# Altium schematic symbol library BlinkBoard_micro.SchLib: 26 symbols
Pins are listed as number, name and electrical type; pins without a type are passive.

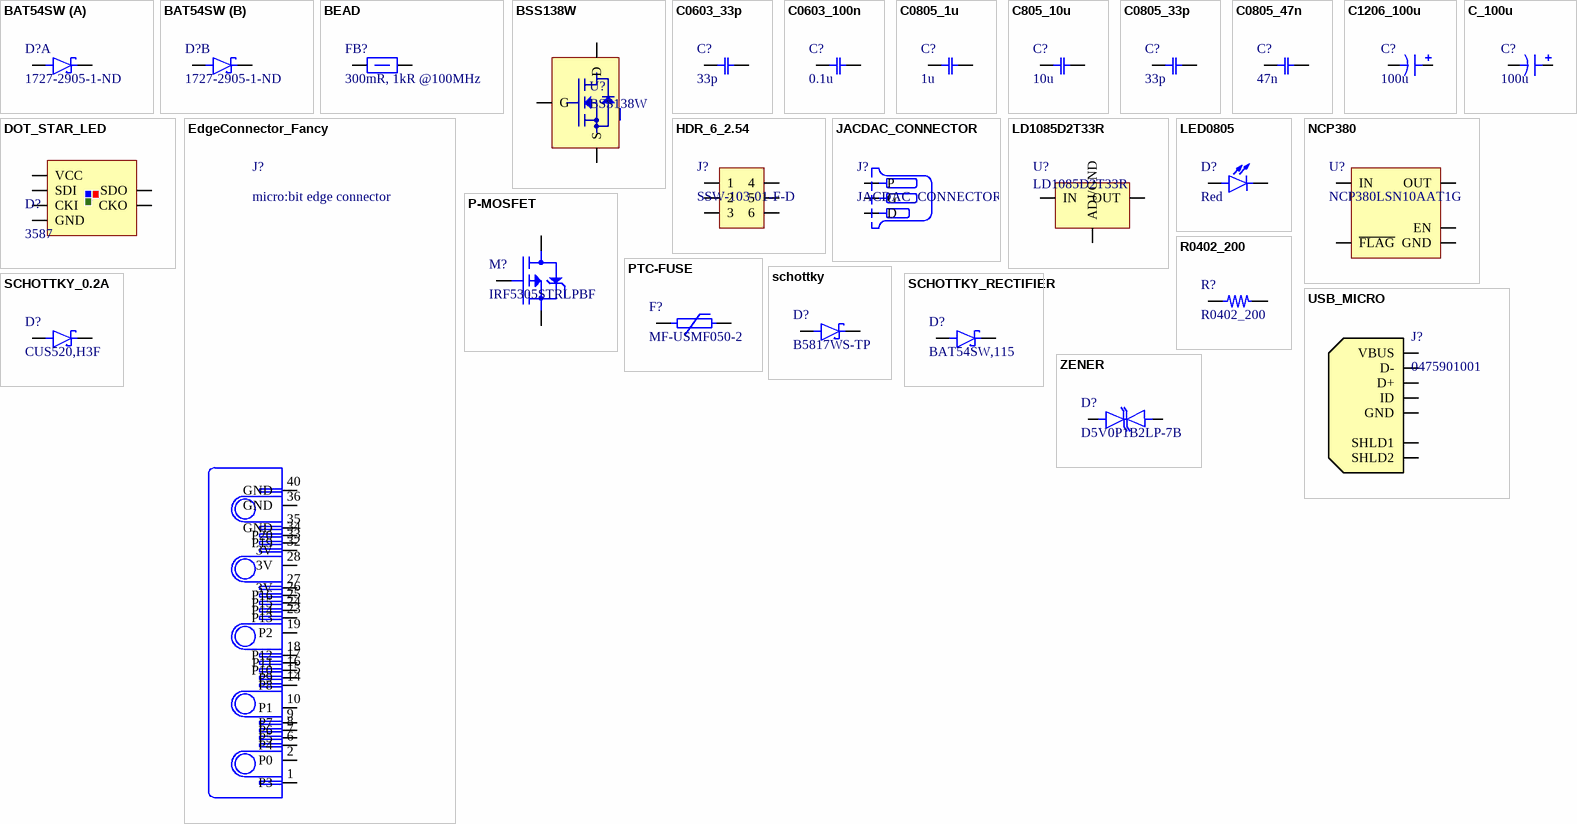
[diagram p0: symbols BAT54SW to ZENER]

## BAT54SW
designator D?, comment 1727-2905-1-ND
Rectifier Diode Schottky 0.2A 5ns Automotive 3-Pin SC-70 T/R; Manufacturer: Nexperia; Manufacturer Part Number: BAT54SW,115; Supplier 1: Digi-Key; RoHS: Yes; Category: Rectifier Diodes; Stock 1: 166801; ComponentLink1URL: http://www.farnell.com/datasheets/1679676.pdf?src-supplier=Farnell; ComponentLink1Description: http://www.farnell.com/datasheets/1679676.pdf?src-supplier=Farnell; ComponentLink2URL: https://assets.nexperia.com/documents/data-sheet/BAT54W_SER.pdf?src-supplier=Digi-Key; ComponentLink2Description: https://assets.nexperia.com/documents/data-sheet/BAT54W_SER.pdf?src-supplier=Digi-Key; Supplier Part Number 1: 1727-2905-1-ND; Pricing 1: 1=0.23000, 10=0.20900, 100=0.11400, 500=0.07018, 1000=0.04785 (USD)
part A pins: 2, 3
part B pins: 1, 3

## BEAD
designator FB?, comment 300mR, 1kR @100MHz
Ferrite Beads Multi-Layer Chip Bead 1KOhm 25% 100MHz 600mA 0603 T/R; Manufacturer: Wurth Electronics; Manufacturer Part Number: 742792662; Number of Lines: 1; Test Frequency: 120MHz; Supplier 1: Digi-Key; RoHS: Yes; Category: Ferrite Beads and Chips; Stock 1: 259725; Mount: Surface Mount; Case/Package: SMD/SMT; Case Code (Metric): 1608; Case Code (Imperial): 0603; Weight: 7.1E-05oz; Material: Ferrite; Min Operating Temperature: -55°C; Max Operating Temperature: 125°C; Package Quantity: 4000; Packaging: Tape and Reel; Tolerance: 25%; Impedance: 1kR; Max Current Rating: 600mA; DC Resistance (DCR): 300mR; Max DC Current: 600mA; Termination: SMD/SMT; Length: 1.6mm; Width: 0.031inch; Height: 0.8mm; Depth: 0.8mm; Lead Free: Lead Free; RoHS Compliant: Yes; ComponentLink1URL: https://datasheet.ciiva.com/29364/742792662-29364469.pdf?src-supplier=Digi-Key; ComponentLink1Description: https://datasheet.ciiva.com/29364/742792662-29364469.pdf?src-supplier=Digi-Key; ComponentLink2URL: https://datasheet.ciiva.com/30489/0900766b812a6756-30489145.pdf?src-supplier=RSComponents; ComponentLink2Description: https://datasheet.ciiva.com/30489/0900766b812a6756-30489145.pdf?src-supplier=RSComponents; ComponentLink3URL: https://datasheet.ciiva.com/29364/742792662-29364471.pdf?src-supplier=Digi-Key; ComponentLink3Description: https://datasheet.ciiva.com/29364/742792662-29364471.pdf?src-supplier=Digi-Key; ComponentLink4URL: https://datasheet.ciiva.com/29364/742792662-29364473.pdf?src-supplier=Digi-Key; ComponentLink4Description: https://datasheet.ciiva.com/29364/742792662-29364473.pdf?src-supplier=Digi-Key; Supplier Part Number 1: 732-4670-1-ND; Pricing 1: 1=0.17000, 50=0.16800, 100=0.15500, 500=0.14800, 1000=0.14100, 2000=0.13400 (USD)
pins: 1, 2

## BSS138W
designator U?
MOSFET 50V N-CH Logic Level; Manufacturer: Fairchild Semiconductor; Channel Type: N-Channel; Drain-Source On Resistance-Max: 3.5 O; Qg Gate Charge: 1.1 nC; Rated Power Dissipation: 340 mW; Supplier 1: Digi-Key; Manufacturer Part Number: BSS138W; Stock 1: 55420; Drain-to-Source Voltage [Vdss]: 50 V; ComponentLink1URL: https://datasheet.ciiva.com/17170/bss138w-17170739.pdf; ComponentLink1Description: https://datasheet.ciiva.com/17170/bss138w-17170739.pdf; ComponentLink2URL: https://datasheet.ciiva.com/8115/bss138w-8115367.pdf; ComponentLink2Description: https://datasheet.ciiva.com/8115/bss138w-8115367.pdf; ComponentLink3URL: https://datasheet.ciiva.com/15043/bss138w-15043927.pdf; ComponentLink3Description: https://datasheet.ciiva.com/15043/bss138w-15043927.pdf; ComponentLink4URL: https://datasheet.ciiva.com/15043/bss138w-15043928.pdf; ComponentLink4Description: https://datasheet.ciiva.com/15043/bss138w-15043928.pdf; ComponentLink5URL: https://datasheet.ciiva.com/15043/bss138w-15043929.pdf; ComponentLink5Description: https://datasheet.ciiva.com/15043/bss138w-15043929.pdf; ComponentLink6URL: https://datasheet.ciiva.com/8115/bss138w-8115370.pdf; ComponentLink6Description: https://datasheet.ciiva.com/8115/bss138w-8115370.pdf; ComponentLink7URL: https://datasheet.ciiva.com/26146/bss138w-26146843.pdf; ComponentLink7Description: https://datasheet.ciiva.com/26146/bss138w-26146843.pdf; ComponentLink8URL: https://datasheet.ciiva.com/13042/bss138w-91619-13042909.pdf; ComponentLink8Description: https://datasheet.ciiva.com/13042/bss138w-91619-13042909.pdf; Supplier Part Number 1: BSS138WCT-ND
footprint SOT323
pins: 1 G, 2 S, 3 D

## C0603_33p
designator C?, comment 33p
CAP, MLCC, NP0, 33PF, 50V, 0603, REEL; Product Range:YAGEO - CC Series; Capacitance:33pF; Capacitance Tolerance:± 5%; Dielectric Characteristic:C0G / NP0; Voltage Rating:50V; Ceramic Capacitor Case:0603 [1608 Metric]; Operating ;RoHS Compliant: Yes; Manufacturer: Yageo; Manufacturer Part Number: CC0603JRNPO9BN330; Dielectric: C0G; Temperature Coefficient: 30ppm/°C; Insulation Resistance: 100GR; Supplier 1: Digi-Key; RoHS: Yes; Category: Ceramic Capacitors; Stock 1: 96652; Mount: Surface Mount; Case/Package: 0603; Number of Pins: 2; Case Code (Metric): 1608; Case Code (Imperial): 0603; Dielectric Material: Ceramic; Min Operating Temperature: -55°C; Max Operating Temperature: 125°C; Capacitance: 33pF; Tolerance: 5%; Packaging: Tape and Reel; Voltage Rating: 50V; Package Quantity: 1; Voltage Rating (DC): 50V; Termination: SMD/SMT; Resistor Type: Ceramic; Voltage: 50V; Series: CC; Length: 1.6mm; Width: 0.031inch; Height: 0.8mm; Thickness: 0.035inch; Depth: 0.8mm; Radiation Hardening: No; REACH SVHC: No SVHC; Lead Free: Lead Free; RoHS Compliant: Yes; ComponentLink1URL: https://datasheet.ciiva.com/11786/0900766b8079c870-11786082.pdf?src-supplier=RSComponents; ComponentLink1Description: https://datasheet.ciiva.com/11786/0900766b8079c870-11786082.pdf?src-supplier=RSComponents; ComponentLink2URL: https://datasheet.ciiva.com/26862/getdatasheetpartid-403532-26862767.pdf?src-supplier=Verical; ComponentLink2Description: https://datasheet.ciiva.com/26862/getdatasheetpartid-403532-26862767.pdf?src-supplier=Verical; ComponentLink3URL: https://datasheet.ciiva.com/144/mlccorderingcode-144643.pdf?src-supplier=Digi-Key; ComponentLink3Description: https://datasheet.ciiva.com/144/mlccorderingcode-144643.pdf?src-supplier=Digi-Key; ComponentLink4URL: https://datasheet.ciiva.com/144/mlccorderingcode-144644.pdf?src-supplier=Digi-Key; ComponentLink4Description: https://datasheet.ciiva.com/144/mlccorderingcode-144644.pdf?src-supplier=Digi-Key; ComponentLink5URL: https://datasheet.ciiva.com/144/mlccorderingcode-144645.pdf?src-supplier=Digi-Key; ComponentLink5Description: https://datasheet.ciiva.com/144/mlccorderingcode-144645.pdf?src-supplier=Digi-Key; ComponentLink6URL: https://datasheet.ciiva.com/5426/upy-gp-np0-16v-to-50v-8-5426614.pdf?src-supplier=Mouser; ComponentLink6Description: https://datasheet.ciiva.com/5426/upy-gp-np0-16v-to-50v-8-5426614.pdf?src-supplier=Mouser; ComponentLink7URL: https://datasheet.ciiva.com/8033/1372269-8033734.pdf?src-supplier=Element14; ComponentLink7Description: https://datasheet.ciiva.com/8033/1372269-8033734.pdf?src-supplier=Element14; ComponentLink8URL: https://datasheet.ciiva.com/8033/1443161-8033735.pdf?src-supplier=Element14; ComponentLink8Description: https://datasheet.ciiva.com/8033/1443161-8033735.pdf?src-supplier=Element14; ComponentLink9URL: https://datasheet.ciiva.com/11464/upy-gp-np0-16v-to-50v-8-11464730.pdf?src-supplier=Avnet; ComponentLink9Description: https://datasheet.ciiva.com/11464/upy-gp-np0-16v-to-50v-8-11464730.pdf?src-supplier=Avnet; ComponentLink10URL: https://datasheet.ciiva.com/46430/1835847-46430155.pdf?src-supplier=Element14; ComponentLink10Description: https://datasheet.ciiva.com/46430/1835847-46430155.pdf?src-supplier=Element14; ComponentLink11URL: https://datasheet.ciiva.com/7978/1443161-7978142.pdf?src-supplier=Element14; ComponentLink11Description: https://datasheet.ciiva.com/7978/1443161-7978142.pdf?src-supplier=Element14; Supplier Part Number 1: 311-1064-1-ND; Pricing 1: 1=0.10000, 10=0.04200, 50=0.02320, 100=0.01890, 500=0.01352, 1000=0.01062 (USD)
footprint C0603
pins: 1, 2

## C0603_100n
designator C?, comment 0.1u
CAP CER 0.1UF 50V X7R 0603; Manufacturer: Yageo; Manufacturer Part Number: CC0603KPX7R9BB104; Tolerance: 10%; Capacitance: 100nF; Supplier 1: Digi-Key; RoHS: Yes; Category: Ceramic Capacitors; Stock 1: 200439; Mount: Surface Mount; Case/Package: 0603; Number of Pins: 2; Case Code (Imperial): 0603; Case Code (Metric): 1608; Weight: 7.1E-05oz; Min Operating Temperature: -55°C; Max Operating Temperature: 125°C; Packaging: Tape and Reel; Voltage Rating (DC): 50V; Voltage Rating: 50V; Dielectric: X7R; Termination: SMD/SMT; Resistor Type: Ceramic; Series: CC; Length: 1.6mm; Width: 0.031inch; Height: 0.8mm; Thickness: 0.035inch; Depth: 0.8mm; Radiation Hardening: No; Lead Free: Lead Free; Halogen Free: Halogen Free; RoHS Compliant: Yes; ComponentLink1URL: https://datasheet.ciiva.com/26829/getdatasheetpartid-653026-26829414.pdf?src-supplier=Verical; ComponentLink1Description: https://datasheet.ciiva.com/26829/getdatasheetpartid-653026-26829414.pdf?src-supplier=Verical; Supplier Part Number 1: 311-3567-6-ND; Pricing 1: 1=0.10000, 10=0.05900, 50=0.03240, 100=0.02640, 500=0.01886, 1000=0.01482, 2500=0.01348, 5000=0.01240 (USD)
footprint C0603
pins: 1, 2

## C0805_1u
designator C?, comment 1u
Surface Mount Ceramic Multilayer Capacitor 1uF -20% to 80% Y5V 25V 0805 Paper T/R; Manufacturer: Yageo; Manufacturer Part Number: CC0805ZRY5V8BB105; Supplier 1: Digi-Key; RoHS: Yes; Category: Ceramic Capacitors; Stock 1: 285953; Mount: Surface Mount; Case/Package: 0805; Case Code (Metric): 2012; Case Code (Imperial): 0805; Weight: 0.000194oz; Min Operating Temperature: -30°C; Max Operating Temperature: 85°C; Capacitance: 1uF; Tolerance: 80%; Dielectric: Y5V; Package Quantity: 1; Voltage Rating: 25V; Packaging: Tape and Reel; Voltage Rating (DC): 25V; Termination: SMD/SMT; Resistor Type: Ceramic; Series: CC; Length: 2mm; Width: 0.049inch; Height: 0.85mm; Depth: 1.25mm; Thickness: 0.033inch; Radiation Hardening: No; RoHS Compliant: Yes; REACH SVHC: No SVHC; Lead Free: Lead Free; Halogen Free: Halogen Free; ComponentLink1URL: https://datasheet.ciiva.com/144/mlccorderingcode-144703.pdf?src-supplier=Digi-Key; ComponentLink1Description: https://datasheet.ciiva.com/144/mlccorderingcode-144703.pdf?src-supplier=Digi-Key; ComponentLink2URL: https://datasheet.ciiva.com/26863/getdatasheetpartid-419810-26863011.pdf?src-supplier=Verical; ComponentLink2Description: https://datasheet.ciiva.com/26863/getdatasheetpartid-419810-26863011.pdf?src-supplier=Verical; ComponentLink3URL: https://datasheet.ciiva.com/144/mlccorderingcode-144704.pdf?src-supplier=Digi-Key; ComponentLink3Description: https://datasheet.ciiva.com/144/mlccorderingcode-144704.pdf?src-supplier=Digi-Key; ComponentLink4URL: https://datasheet.ciiva.com/144/mlccorderingcode-144705.pdf?src-supplier=Digi-Key; ComponentLink4Description: https://datasheet.ciiva.com/144/mlccorderingcode-144705.pdf?src-supplier=Digi-Key; ComponentLink5URL: https://datasheet.ciiva.com/13208/upy-gp-np0-16v-to-50v-8-13208251.pdf?src-supplier=Mouser; ComponentLink5Description: https://datasheet.ciiva.com/13208/upy-gp-np0-16v-to-50v-8-13208251.pdf?src-supplier=Mouser; ComponentLink6URL: https://datasheet.ciiva.com/28450/1132289-28450860.pdf?src-supplier=Element14; ComponentLink6Description: https://datasheet.ciiva.com/28450/1132289-28450860.pdf?src-supplier=Element14; Supplier Part Number 1: 311-1358-1-ND; Pricing 1: 1=0.14000, 10=0.10200, 50=0.05820, 100=0.04820, 500=0.03378, 1000=0.02796 (USD)
pins: 1, 2

## C805_10u
designator C?, comment 10u
Cap Ceramic 10uF 10Vdc X5R 10% SMD 0805 85°C Paper T/R; Manufacturer: Yageo; Manufacturer Part Number: CC0805KPX5R6BB106; Supplier 1: Digi-Key; Stock 1: 54858; RoHS Compliant: Yes; ComponentLink1URL: http://datasheet.octopart.com/CC0805KPX5R6BB106-Yageo-datasheet-86397281.pdf; ComponentLink1Description: http://datasheet.octopart.com/CC0805KPX5R6BB106-Yageo-datasheet-86397281.pdf; Supplier Part Number 1: 13-CC0805KPX5R6BB106CT-ND; Pricing 1: 1=0.21000, 10=0.14300, 50=0.08560, 100=0.07240, 500=0.04952, 1000=0.04380, 2500=0.04190, 5000=0.03809 (USD)
footprint C0805
pins: 1, 2

## C0805_33p
designator C?, comment 33p
Cap Ceramic 33pF 50V C0G 5% SMD 0805 125C Paper T/R; Manufacturer: Yageo; Manufacturer Part Number: CC0805JRNPO9BN330; Supplier 1: Digi-Key; RoHS: Yes; Category: Ceramic Capacitors; Stock 1: 41012; Mount: Surface Mount; Case/Package: 0805; Case Code (Imperial): 0805; Case Code (Metric): 2012; Material: Ceramic; Dielectric Material: Ceramic; Min Operating Temperature: -55°C; Max Operating Temperature: 125°C; Capacitance: 33pF; Package Quantity: 1; Voltage Rating: 50V; Voltage Rating (DC): 50V; Tolerance: 5%; Packaging: Tape and Reel; Dielectric: C0G; Termination: SMD/SMT; Resistor Type: Ceramic; Voltage: 50V; Series: CC; Length: 2mm; Width: 1.25mm; Height: 0.6mm; Thickness: 0.024inch; Depth: 1.25mm; Radiation Hardening: No; REACH SVHC: Unknown; Lead Free: Lead Free; RoHS Compliant: Yes; ComponentLink1URL: https://datasheet.ciiva.com/144/mlccorderingcode-144778.pdf?src-supplier=Digi-Key; ComponentLink1Description: https://datasheet.ciiva.com/144/mlccorderingcode-144778.pdf?src-supplier=Digi-Key; ComponentLink2URL: https://datasheet.ciiva.com/144/mlccorderingcode-144779.pdf?src-supplier=Digi-Key; ComponentLink2Description: https://datasheet.ciiva.com/144/mlccorderingcode-144779.pdf?src-supplier=Digi-Key; ComponentLink3URL: https://datasheet.ciiva.com/144/mlccorderingcode-144780.pdf?src-supplier=Digi-Key; ComponentLink3Description: https://datasheet.ciiva.com/144/mlccorderingcode-144780.pdf?src-supplier=Digi-Key; ComponentLink4URL: https://datasheet.ciiva.com/11464/upy-gp-np0-16v-to-50v-8-11464747.pdf?src-supplier=Avnet; ComponentLink4Description: https://datasheet.ciiva.com/11464/upy-gp-np0-16v-to-50v-8-11464747.pdf?src-supplier=Avnet; ComponentLink5URL: https://datasheet.ciiva.com/8033/1443161-8033942.pdf?src-supplier=Element14; ComponentLink5Description: https://datasheet.ciiva.com/8033/1443161-8033942.pdf?src-supplier=Element14; ComponentLink6URL: https://datasheet.ciiva.com/8033/1443161-8033944.pdf?src-supplier=Element14; ComponentLink6Description: https://datasheet.ciiva.com/8033/1443161-8033944.pdf?src-supplier=Element14; ComponentLink7URL: https://datasheet.ciiva.com/16625/upy-gp-np0-16v-to-50v-8-16625541.pdf?src-supplier=Avnet+Europe; ComponentLink7Description: https://datasheet.ciiva.com/16625/upy-gp-np0-16v-to-50v-8-16625541.pdf?src-supplier=Avnet+Europe; ComponentLink8URL: https://datasheet.ciiva.com/29241/445349-da-01-en-kerko-chip-0805-np0-33pf-5proz-50v-g-29241975.pdf?src-supplier=Conrad; ComponentLink8Description: https://datasheet.ciiva.com/29241/445349-da-01-en-kerko-chip-0805-np0-33pf-5proz-50v-g-29241975.pdf?src-supplier=Conrad; Supplier Part Number 1: 311-1105-1-ND; Pricing 1: 1=0.11000, 10=0.07800, 50=0.04280, 100=0.03490, 500=0.02492, 1000=0.01958 (USD)
pins: 1, 2

## C0805_47n
designator C?, comment 47n
Cap Ceramic 0.047uF 50V X7R 5% SMD 0805 125C Paper T/R; Manufacturer: Yageo; Manufacturer Part Number: CC0805JRX7R9BB473; Capacitance: 47nF; RoHS: Yes; Mount: Surface Mount; Case/Package: 0805; Weight: 0.000194oz; Case Code (Imperial): 0805; Case Code (Metric): 2012; Min Operating Temperature: -55°C; Max Operating Temperature: 125°C; Tolerance: 5%; Voltage Rating: 50V; Voltage Rating (DC): 50V; Packaging: Tape and Reel; Dielectric: X7R; Termination: SMD/SMT; Composition: Ceramic; Length: 2mm; Height: 0.85mm; Width: 1.25mm; Thickness: 0.037inch; Depth: 1.25mm; Radiation Hardening: No; Lead Free: Lead Free; Halogen Free: Halogen Free; ComponentLink4URL: https://datasheet.ciiva.com/11587/upy-gphc-x7r-6-3v-to-50v-8-11587207.pdf?src-supplier=Avnet; ComponentLink4Description: https://datasheet.ciiva.com/11587/upy-gphc-x7r-6-3v-to-50v-8-11587207.pdf?src-supplier=Avnet; Supplier 1: Digi-Key; Stock 1: 8317; Supplier Part Number 1: 311-3553-6-ND; Pricing 1: 1 = 0.21000, 10 = 0.14700, 100 = 0.06900, 500 = 0.04838, 1000 = 0.04005 (USD)
footprint C0805
pins: 1, 2

## C1206_100u
designator C?, comment 100u
100uF Solid MnO2 Tantalum Capacitor,  4 V +/-20%,  T491 Series; Manufacturer: KEMET; Manufacturer Part Number: T491A107M004AT; Tolerance: 20%; ESR (Equivalent Series Resistance): 4R; Voltage Rating: 4V; Leakage Current: 4uA; Dissipation Factor: 30%; Polarity: Polar; Life (Hours): 2000Hour; Supplier 1: Digi-Key; Stock 1: 52740; RoHS: Yes; Mount: Surface Mount,PCB; Case/Package: 1206; Dielectric Material: Tantalum; Case Code (Imperial): 1206; Case Code (Metric): 3216; Min Operating Temperature: -55°C; Max Operating Temperature: 125°C; Capacitance: 100uF; Packaging: Tape and Reel; Package Quantity: 1; Termination: SMD/SMT; Voltage: 4V; Voltage Rating (DC): 4V; Features: General Purpose; Length: 3.2mm; Height: 1.6mm; Width: 1.6mm; Height - Seated (Max): 0.071inch; Lead Pitch: 1.2mm; Depth: 1.6mm; Radiation Hardening: No; REACH SVHC: No SVHC; Lead Free: Lead Free; ComponentLink1URL: https://datasheet.ciiva.com/14103/t491serie-eng-tds-14103975.pdf?src-supplier=Distrelec; ComponentLink1Description: https://datasheet.ciiva.com/14103/t491serie-eng-tds-14103975.pdf?src-supplier=Distrelec; ComponentLink2URL: https://datasheet.ciiva.com/7851/1854511-7851162.pdf?src-supplier=Element14; ComponentLink2Description: https://datasheet.ciiva.com/7851/1854511-7851162.pdf?src-supplier=Element14; ComponentLink3URL: https://datasheet.ciiva.com/14589/70095774-14589211.pdf?src-supplier=Allied+Electronics; ComponentLink3Description: https://datasheet.ciiva.com/14589/70095774-14589211.pdf?src-supplier=Allied+Electronics; ComponentLink4URL: https://datasheet.ciiva.com/258/kem-t2005-t491-258169.pdf?src-supplier=Digi-Key; ComponentLink4Description: https://datasheet.ciiva.com/258/kem-t2005-t491-258169.pdf?src-supplier=Digi-Key; ComponentLink5URL: https://datasheet.ciiva.com/258/kem-t2005-t491-258170.pdf?src-supplier=Digi-Key; ComponentLink5Description: https://datasheet.ciiva.com/258/kem-t2005-t491-258170.pdf?src-supplier=Digi-Key; ComponentLink6URL: https://datasheet.ciiva.com/258/kem-t2005-t491-258171.pdf?src-supplier=Digi-Key; ComponentLink6Description: https://datasheet.ciiva.com/258/kem-t2005-t491-258171.pdf?src-supplier=Digi-Key; ComponentLink7URL: https://datasheet.ciiva.com/46417/1854511-46417596.pdf?src-supplier=Element14; ComponentLink7Description: https://datasheet.ciiva.com/46417/1854511-46417596.pdf?src-supplier=Element14; ComponentLink8URL: https://datasheet.ciiva.com/14606/70095774-14606061.pdf?src-supplier=Allied+Electronics; ComponentLink8Description: https://datasheet.ciiva.com/14606/70095774-14606061.pdf?src-supplier=Allied+Electronics; Supplier Part Number 1: 399-3688-6-ND; Pricing 1: 1 = 0.67000, 10 = 0.47100, 50 = 0.35640, 100 = 0.31040, 500 = 0.22990, 1000 = 0.19542 (USD)
footprint C1206
pins: 1, 2

## C_100u
designator C?, comment 100u
PACITOR ALUM ELEC, 1UF, 50V, 20%, SMD; Product Range:PANASONIC - HD Series; Capacitance:1µF; Voltage Rating:50V; AE Capacitor Case:Radial Can - SMD; Diameter:4mm; ESR:-; Height:5.8mm; Ripple Current AC:7mA; Packaging:Cut Tape; Manufacturer Part Number: EEEHD1H1R0R; Dielectric Material: Aluminium; Ripple Current: 7mA; Impedance: 12R; Polarity: Polar; Leakage Current: 3uA; Life (Hours): 5000Hour; Supplier 1: Digi-Key; Manufacturer: Panasonic; RoHS: Yes; Category: Aluminum Electrolytic Capacitors; Stock 1: 36484; Mount: Surface Mount,PCB; Case/Package: Radial; Number of Pins: 2; Min Operating Temperature: -40°C; Max Operating Temperature: 105°C; Capacitance: 1uF; Voltage Rating: 50V; Tolerance: 20%; Packaging: Tape and Reel; Package Quantity: 2000; Ripple Current (AC): 7mA; ESR (Equivalent Series Resistance): 12R; Voltage Rating (DC): 50V; Termination: SMD/SMT; Voltage: 50V; Series: HD; Construction: Cylindrical; Diameter: 4mm; Length: 5.5mm; Height: 5.8mm; Height - Seated (Max): 0.228inch; Lead Pitch: 1mm; Radiation Hardening: No; REACH SVHC: No SVHC; Lead Free: Lead Free; RoHS Compliant: Yes; ComponentLink1URL: https://datasheet.ciiva.com/11783/0900766b80f32c52-11783727.pdf?src-supplier=RSComponents; ComponentLink1Description: https://datasheet.ciiva.com/11783/0900766b80f32c52-11783727.pdf?src-supplier=RSComponents; ComponentLink2URL: https://datasheet.ciiva.com/2985/aba0000ce100-2985958.pdf?src-supplier=Avnet; ComponentLink2Description: https://datasheet.ciiva.com/2985/aba0000ce100-2985958.pdf?src-supplier=Avnet; ComponentLink3URL: https://datasheet.ciiva.com/48523/smd-hd-eng-tds-48523243.pdf?src-supplier=Distrelec; ComponentLink3Description: https://datasheet.ciiva.com/48523/smd-hd-eng-tds-48523243.pdf?src-supplier=Distrelec; ComponentLink4URL: https://datasheet.ciiva.com/14610/70068285-14610445.pdf?src-supplier=Allied+Electronics; ComponentLink4Description: https://datasheet.ciiva.com/14610/70068285-14610445.pdf?src-supplier=Allied+Electronics; ComponentLink5URL: https://datasheet.ciiva.com/16205/aba0000ce100-16205365.pdf?src-supplier=Future+Electronics; ComponentLink5Description: https://datasheet.ciiva.com/16205/aba0000ce100-16205365.pdf?src-supplier=Future+Electronics; ComponentLink6URL: https://datasheet.ciiva.com/17537/aba0000ce100-17537099.pdf?src-supplier=Avnet+Europe; ComponentLink6Description: https://datasheet.ciiva.com/17537/aba0000ce100-17537099.pdf?src-supplier=Avnet+Europe; ComponentLink7URL: https://datasheet.ciiva.com/46388/370269-46388061.pdf?src-supplier=Element14; ComponentLink7Description: https://datasheet.ciiva.com/46388/370269-46388061.pdf?src-supplier=Element14; ComponentLink8URL: https://datasheet.ciiva.com/14593/70068285-14593791.pdf?src-supplier=Allied+Electronics; ComponentLink8Description: https://datasheet.ciiva.com/14593/70068285-14593791.pdf?src-supplier=Allied+Electronics; ComponentLink9URL: https://datasheet.ciiva.com/30161/43aba0000ce100-30161359.pdf?src-supplier=Onlinecomponents.com; ComponentLink9Description: https://datasheet.ciiva.com/30161/43aba0000ce100-30161359.pdf?src-supplier=Onlinecomponents.com; Supplier Part Number 1: PCE4972CT-ND; Pricing 1: 1=0.34000, 10=0.23800, 50=0.16680, 100=0.14290, 500=0.10716, 1000=0.09050 (USD)
footprint C100U
pins: 1, 2

## DOT_STAR_LED
designator D?, comment 3587
DotStar Micro LEDs (APA102–2020)- Smart SMD RGB LED - 100 pack; Manufacturer: Adafruit Industries; Color: Blue,Green,Red; Interface: Serial; Number of LEDs: 100; Supplier 1: Digi-Key; Manufacturer Part Number: 3587; RoHS: No; Stock 1: 113; Mount: Surface Mount; Length: 2mm; Width: 2mm; ComponentLink1URL: https://media.digikey.com/pdf/Data%20Sheets/Adafruit%20PDFs/3587_Web.pdf?src-supplier=Digi-Key; ComponentLink1Description: https://media.digikey.com/pdf/Data%20Sheets/Adafruit%20PDFs/3587_Web.pdf?src-supplier=Digi-Key; Supplier Part Number 1: 1528-2392-ND; Pricing 1: 1=29.95000 (USD)
footprint APA102-2020
pins: 1 SDI, 2 CKI, 3 GND, 4 VCC, 5 CKO, 6 SDO

## EdgeConnector_Fancy
designator J?, comment micro:bit edge connector
3887; Manufacturer: Adafruit Industries; Supplier 1: Digi-Key; Manufacturer Part Number: 3887; RoHS: No; Stock 1: 1; Supplier Part Number 1: 1528-2644-ND; Pricing 1: 1=2.95000 (USD)
pins: 1 P3, 2 P0, 6 P4, 7 P5, 8 P6, 9 P7, 10 P1, 14 P8, 15 P9, 16 P10, 17 P11, 18 P12, 19 P2, 23 P13, 24 P14, 25 P15, 26 P16, 27 3V, 28 3V, 32 3V, 33 P19, 34 P20, 35 GND, 36 GND, 40 GND

## HDR_6_2.54
designator J?, comment SSW-103-01-F-D
SAMTEC - SSW-103-01-F-D - CONNECTOR, RECEPTACLE, 6 CONTACTS, 2 ROWS, 2.54 MM; Max Current Rating: 7.6A; Contact Resistance: 10mR; Max Voltage Rating (AC): 550V; Number of Contacts: 6; Gender: Female; Mating Cycles: 100; Pitch: 2.54mm; Supplier 1: Digi-Key; Manufacturer: Samtec; Manufacturer Part Number: SSW-103-01-F-D; RoHS: Yes; Category: Headers and Wire Housings; Stock 1: 1509; Contact Plating: Gold; Contact Material: Bronze; Housing Color: Black; Color: Black; Housing Material: Polymer; Min Operating Temperature: -55°C; Max Operating Temperature: 125°C; Number of Rows: 2; Packaging: Bulk; Termination: Solder; Orientation: Vertical; Length: 8.13mm; Depth: 4.95mm; Radiation Hardening: No; RoHS Compliant: Yes; ComponentLink1URL: http://www.farnell.com/datasheets/2550265.pdf?src-supplier=Farnell; ComponentLink1Description: http://www.farnell.com/datasheets/2550265.pdf?src-supplier=Farnell; ComponentLink2URL: http://components.arrow.com/part/dataview/4842126S6546715N1004?src-supplier=Arrow+Electronics; ComponentLink2Description: http://components.arrow.com/part/dataview/4842126S6546715N1004?src-supplier=Arrow+Electronics; ComponentLink3URL: http://components.arrow.com/part/dataview/0323_00788229?src-supplier=Arrow+Europe; ComponentLink3Description: http://components.arrow.com/part/dataview/0323_00788229?src-supplier=Arrow+Europe; ComponentLink4URL: ftp://ftp.samtec.com/webfiles/PDF/SSQ_TH.PDF?src-supplier=Avnet; ComponentLink4Description: ftp://ftp.samtec.com/webfiles/PDF/SSQ_TH.PDF?src-supplier=Avnet; ComponentLink5URL: http://suddendocs.samtec.com/catalog_english/ssw_th.pdf?src-supplier=Digi-Key; ComponentLink5Description: http://suddendocs.samtec.com/catalog_english/ssw_th.pdf?src-supplier=Digi-Key; ComponentLink6URL: ftp://ftp.samtec.com/webfiles/PDF/SSQ_TH.PDF?src-supplier=Avnet+Europe; ComponentLink6Description: ftp://ftp.samtec.com/webfiles/PDF/SSQ_TH.PDF?src-supplier=Avnet+Europe; ComponentLink7URL: http://www.farnell.com/datasheets/2550265.pdf?src-supplier=Newark; ComponentLink7Description: http://www.farnell.com/datasheets/2550265.pdf?src-supplier=Newark; Supplier Part Number 1: SAM10016-ND; Pricing 1: 1=1.42000, 10=1.28700, 100=1.10290, 500=0.91910, 1000=0.78780, 5000=0.69852, 10000=0.68276 (USD)
pins: 1, 2, 3, 4 6, 5, 6 4

## JACDAC_CONNECTOR
designator J?
pins: 1 P, 2 G, 3 D

## LD1085D2T33R
designator U?
Fixed LDO Voltage Regulator, 6.3V to 30V, 1.3V Dropout, 3.3Vout, 3Aout, TO-263-3; Manufacturer: STMicroelectronics; Number of Outputs: 1; Max Output Current: 3A; Output Voltage: 3.3V; Min Supply Voltage: 4.9V; Input Bias Current: 5mA; Polarity: Positive; Quiescent Current: 10mA; Max Output Voltage: 3.333V; Accuracy: 1%; Supplier 1: Digi-Key; Manufacturer Part Number: LD1085D2T33R; Stock 1: 5416; Mount: Surface Mount; Case/Package: TO-263; Number of Pins: 3; Weight: 0.01lb; Contact Plating: Tin,Matte; Min Operating Temperature: -40°C; Max Operating Temperature: 125°C; Packaging: Tape and Reel; Max Input Voltage: 30V; Dropout Voltage: 1.3V; Output Current: 3A; Max Supply Voltage: 30V; Package Quantity: 1; Min Input Voltage: 6.3V; Nominal Output Voltage: 3.3V; Number of Regulators: 1; Min Output Voltage: 3.3V; Termination: SMD/SMT; Output Voltage Accuracy: 1%; Length: 10.4mm; Height: 4.6mm; Width: 9.35mm; Radiation Hardening: No; REACH SVHC: No SVHC; Lead Free: Lead Free; ComponentLink1URL: https://datasheet.ciiva.com/16375/cd00001883-16375381.pdf; ComponentLink1Description: https://datasheet.ciiva.com/16375/cd00001883-16375381.pdf; ComponentLink2URL: https://datasheet.ciiva.com/1511/1761309-1511542.pdf; ComponentLink2Description: https://datasheet.ciiva.com/1511/1761309-1511542.pdf; ComponentLink3URL: https://datasheet.ciiva.com/22694/1761309-22694841.pdf; ComponentLink3Description: https://datasheet.ciiva.com/22694/1761309-22694841.pdf; ComponentLink4URL: https://datasheet.ciiva.com/2044/cd00001883-2044187.pdf; ComponentLink4Description: https://datasheet.ciiva.com/2044/cd00001883-2044187.pdf; ComponentLink5URL: https://datasheet.ciiva.com/15111/getdatasheetpartid-65476-15111291.pdf; ComponentLink5Description: https://datasheet.ciiva.com/15111/getdatasheetpartid-65476-15111291.pdf; ComponentLink6URL: https://datasheet.ciiva.com/2044/cd00001883-2044188.pdf; ComponentLink6Description: https://datasheet.ciiva.com/2044/cd00001883-2044188.pdf; ComponentLink7URL: https://datasheet.ciiva.com/2044/cd00001883-2044189.pdf; ComponentLink7Description: https://datasheet.ciiva.com/2044/cd00001883-2044189.pdf; ComponentLink8URL: https://datasheet.ciiva.com/41439/001184676-da-01-en-ic-reg-ldo-3-3-ld1085d2t33r-to-263-3-stm-41439834.pdf; ComponentLink8Description: https://datasheet.ciiva.com/41439/001184676-da-01-en-ic-reg-ldo-3-3-ld1085d2t33r-to-263-3-stm-41439834.pdf; Supplier Part Number 1: 497-1222-6-ND; Pricing 1: 1=1.46, 10=1.305, 100=1.0176, 500=0.84066 (USD)
footprint D2PAK
pins: 1 ADJ/GND, 3 IN, 4 OUT

## LED0805
designator D?, comment Red
WURTH ELEKTRONIK - 150060RS75000 - LED, Red, 625 nm, 2 V, 30 mA, 250 mcd RoHS Compliant: Yes (150060RS75000); Manufacturer: Wurth Electronics; Viewing Angle: 140°; Lens Style: Clear,Rectangular; Luminous Intensity: 250mcd; Forward Current: 30mA; Forward Voltage: 2V; Wavelength: 625nm; Test Current: 20mA; Supplier 1: Digi-Key; Manufacturer Part Number: 150060RS75000; RoHS: Yes; Category: LEDs; Stock 1: 200517; Mount: Surface Mount; Case/Package: 0603; Color: Red; Case Code (Metric): 1608; Case Code (Imperial): 0603; Min Operating Temperature: -40°C; Max Operating Temperature: 85°C; Package Quantity: 1; Packaging: Cut Tape; Dominant Wavelength: 625nm; Length: 1.6mm; Width: 0.8mm; Height: 0.7mm; REACH SVHC: Unknown; RoHS Compliant: Yes; ComponentLink1URL: https://datasheet.ciiva.com/29563/150060rs75000-29563040.pdf?src-supplier=Digi-Key; ComponentLink1Description: https://datasheet.ciiva.com/29563/150060rs75000-29563040.pdf?src-supplier=Digi-Key; ComponentLink2URL: https://datasheet.ciiva.com/29279/759428-da-01-en-chipled-0603-w-kl-rot-150060rs75000-29279196.pdf?src-supplier=Conrad; ComponentLink2Description: https://datasheet.ciiva.com/29279/759428-da-01-en-chipled-0603-w-kl-rot-150060rs75000-29279196.pdf?src-supplier=Conrad; Supplier Part Number 1: 732-4978-1-ND; Pricing 1: 1=0.14000, 50=0.13300, 100=0.12000, 500=0.11400, 1000=0.09900 (USD)
pins: 1 C, 2 A

## NCP380
designator U?, comment NCP380LSN10AAT1G
REEL / OVER CURRENT PROTECTION; Manufacturer: ON Semiconductor; Number of Outputs: 1; Max Input Voltage: 5.5V; Min Input Voltage: 2.5V; Max Power Dissipation: 325mW; Number of Inputs: 2; Current Rating: 1A; Interface: On/Off; On-State Resistance: 135mR; Turn-On Delay Time: 4ms; Turn-Off Delay Time: 3ms; Output Configuration: High Side; On-state Resistance-Max: 110MR; Supplier 1: Digi-Key; Manufacturer Part Number: NCP380LSN10AAT1G; RoHS: Yes; Category: USB Interface ICs; Mount: Surface Mount; Case/Package: TSOP; Number of Pins: 5; Min Operating Temperature: -40°C; Max Operating Temperature: 85°C; Package Quantity: 1; Packaging: Tape and Reel; Output Current: 1A; Max Output Current: 1A; Operating Supply Voltage: 5.5V; Series: -; Number of Switches: 1; Rated Current-Max: 1A; Length: 3mm; Width: 1.5mm; Height: 1mm; Lead Free: Lead Free; Halogen Free: Halogen Free; RoHS Compliant: Yes; ComponentLink1URL: https://datasheet.ciiva.com/1939/ncp380-d-1939778.pdf?src-supplier=Digi-Key; ComponentLink1Description: https://datasheet.ciiva.com/1939/ncp380-d-1939778.pdf?src-supplier=Digi-Key; ComponentLink2URL: https://datasheet.ciiva.com/1939/ncp380-d-1939779.pdf?src-supplier=Digi-Key; ComponentLink2Description: https://datasheet.ciiva.com/1939/ncp380-d-1939779.pdf?src-supplier=Digi-Key; ComponentLink3URL: https://datasheet.ciiva.com/1939/ncp380-d-1939780.pdf?src-supplier=Digi-Key; ComponentLink3Description: https://datasheet.ciiva.com/1939/ncp380-d-1939780.pdf?src-supplier=Digi-Key; ComponentLink4URL: https://datasheet.ciiva.com/16468/ncp380-d-16468713.pdf?src-supplier=Future+Electronics; ComponentLink4Description: https://datasheet.ciiva.com/16468/ncp380-d-16468713.pdf?src-supplier=Future+Electronics; Supplier Part Number 1: NCP380LSN10AAT1GOSCT-ND; Pricing 1: 1=0.76000, 10=0.66500, 25=0.62440, 100=0.50950, 250=0.47328, 500=0.40280, 1000=0.33250 (USD)
pins: 1 OUT, 2 GND, 3 ~{FLAG}, 4 EN, 5 IN

## P-MOSFET
designator M?, comment IRF5305STRLPBF
In a Tube of 50, P-Channel MOSFET, 31 A, 55 V, 3-Pin D2PAK Infineon IRF5305SPBF; Manufacturer: International Rectifier; Rds On Max: 60mR; Input Capacitance: 1.2nF; Number of Elements: 1; Max Power Dissipation: 3.8W; Gate to Source Voltage (Vgs): 20V; Drain to Source Voltage (Vdss): 55V; Continuous Drain Current (ID): 31A; Rise Time: 66ns; Turn-Off Delay Time: 39ns; Turn-On Delay Time: 14ns; Fall Time: 63ns; Element Configuration: Single; Drain to Source Breakdown Voltage: -55V; Nominal Vgs: -4V; Current Rating: -31A; Supplier 1: Digi-Key; Manufacturer Part Number: IRF5305STRLPBF; RoHS: Yes; Category: MOSFETs; Stock 1: 1237; Mount: Surface Mount; Case/Package: D2PAK; Number of Pins: 3; Min Operating Temperature: -55°C; Max Operating Temperature: 175°C; Package Quantity: 1; Packaging: Tape and Reel; Power Dissipation: 3.8W; Drain to Source Resistance: 60mR; Series: HEXFET®; Drain-source On Resistance-Max: 60mR; Voltage Rating (DC): -55V; On-State Resistance: 60mR; Length: 10.67mm; Width: 9.65mm; Height: 4.83mm; Radiation Hardening: No; RoHS Compliant: Yes; Lead Free: Lead Free; REACH SVHC: No SVHC; Supplier Part Number 1: IRF5305STRLPBFCT-ND; Pricing 1: 1=1.84000, 10=1.64400, 25=1.56040, 100=1.28170 (USD)
pins: 1, 2, 3

## PTC-FUSE
designator F?, comment MF-USMF050-2
BOURNS - MF-USMF050-2.. - FUSE, PTC RESET, 13.2V, 0.5A, SMD; Number of Terminals/Pins: 2; Current Rating: 40A; Resistance: 900mR; Power Dissipation: 600mW; Hold Current: 500mA; Trip Current: 1A; Time to Trip: 0.1s; Approvals: UL,CSA,TUV; Supplier 1: Digi-Key; Manufacturer: Bourns; Manufacturer Part Number: MF-USMF050-2; RoHS: Yes; Category: PTC Resettable Fuses; Stock 1: 15631; Mount: PCB,Surface Mount; Case/Package: 1210; Number of Pins: 2; Case Code (Metric): 3225; Case Code (Imperial): 1210; Contact Plating: Gold; Terminal Material: Gold; Min Operating Temperature: -40°C; Max Operating Temperature: 85°C; Packaging: Tape and Reel; Package Quantity: 3000; Voltage Rating (DC): 13.2V; Series: MF-USMF; Operating Supply Voltage: 13.2V; Max Current Rating: 40A; Voltage Rating: 13.2V; Termination: SMD/SMT; Length: 3.43mm; Width: 2.8mm; Height: 0.85mm; Radiation Hardening: No; REACH SVHC: No SVHC; Lead Free: Lead Free; RoHS Compliant: Yes; ComponentLink1URL: https://datasheet.ciiva.com/326/mfusmf-326444.pdf?src-supplier=Digi-Key; ComponentLink1Description: https://datasheet.ciiva.com/326/mfusmf-326444.pdf?src-supplier=Digi-Key; ComponentLink2URL: https://datasheet.ciiva.com/48782/1869950-48782021.pdf?src-supplier=Element14; ComponentLink2Description: https://datasheet.ciiva.com/48782/1869950-48782021.pdf?src-supplier=Element14; ComponentLink3URL: https://datasheet.ciiva.com/48780/1869950-48780406.pdf?src-supplier=Element14; ComponentLink3Description: https://datasheet.ciiva.com/48780/1869950-48780406.pdf?src-supplier=Element14; ComponentLink4URL: https://datasheet.ciiva.com/28411/1719966-28411294.pdf?src-supplier=Element14; ComponentLink4Description: https://datasheet.ciiva.com/28411/1719966-28411294.pdf?src-supplier=Element14; ComponentLink5URL: https://datasheet.ciiva.com/22712/711771-22712236.pdf?src-supplier=Element14; ComponentLink5Description: https://datasheet.ciiva.com/22712/711771-22712236.pdf?src-supplier=Element14; ComponentLink6URL: https://datasheet.ciiva.com/15186/getdatasheetpartid-62155-15186939.pdf?src-supplier=Verical; ComponentLink6Description: https://datasheet.ciiva.com/15186/getdatasheetpartid-62155-15186939.pdf?src-supplier=Verical; ComponentLink7URL: https://datasheet.ciiva.com/16206/mfusmf-16206700.pdf?src-supplier=Onlinecomponents.com; ComponentLink7Description: https://datasheet.ciiva.com/16206/mfusmf-16206700.pdf?src-supplier=Onlinecomponents.com; ComponentLink8URL: https://datasheet.ciiva.com/8005/1869950-8005479.pdf?src-supplier=Element14; ComponentLink8Description: https://datasheet.ciiva.com/8005/1869950-8005479.pdf?src-supplier=Element14; ComponentLink9URL: https://datasheet.ciiva.com/30157/mfusmf-30157375.pdf?src-supplier=Onlinecomponents.com; ComponentLink9Description: https://datasheet.ciiva.com/30157/mfusmf-30157375.pdf?src-supplier=Onlinecomponents.com; ComponentLink10URL: https://datasheet.ciiva.com/32438/mf-usmf-series-eng-tds-32438765.pdf?src-supplier=Distrelec; ComponentLink10Description: https://datasheet.ciiva.com/32438/mf-usmf-series-eng-tds-32438765.pdf?src-supplier=Distrelec; ComponentLink11URL: https://datasheet.ciiva.com/31412/1719966-31412935.pdf?src-supplier=Farnell; ComponentLink11Description: https://datasheet.ciiva.com/31412/1719966-31412935.pdf?src-supplier=Farnell; ComponentLink12URL: https://datasheet.ciiva.com/3019/mfusmf-3019688.pdf?src-supplier=Avnet; ComponentLink12Description: https://datasheet.ciiva.com/3019/mfusmf-3019688.pdf?src-supplier=Avnet; ComponentLink13URL: https://datasheet.ciiva.com/3019/mfusmf-3019689.pdf?src-supplier=Avnet; ComponentLink13Description: https://datasheet.ciiva.com/3019/mfusmf-3019689.pdf?src-supplier=Avnet; ComponentLink14URL: https://datasheet.ciiva.com/326/mfusmf-326446.pdf?src-supplier=Digi-Key; ComponentLink14Description: https://datasheet.ciiva.com/326/mfusmf-326446.pdf?src-supplier=Digi-Key; ComponentLink15URL: https://datasheet.ciiva.com/326/mfusmf-326445.pdf?src-supplier=Digi-Key; ComponentLink15Description: https://datasheet.ciiva.com/326/mfusmf-326445.pdf?src-supplier=Digi-Key; ComponentLink16URL: https://datasheet.ciiva.com/17401/mfusmf-17401621.pdf?src-supplier=Avnet+Europe; ComponentLink16Description: https://datasheet.ciiva.com/17401/mfusmf-17401621.pdf?src-supplier=Avnet+Europe; ComponentLink17URL: https://datasheet.ciiva.com/14540/70153608-14540059.pdf?src-supplier=Allied+Electronics; ComponentLink17Description: https://datasheet.ciiva.com/14540/70153608-14540059.pdf?src-supplier=Allied+Electronics; Supplier Part Number 1: MF-USMF050-2CT-ND; Pricing 1: 1=0.34000, 5=0.32400, 10=0.31500, 50=0.26500, 100=0.22000, 250=0.20000, 500=0.17000, 1000=0.15000 (USD)
footprint MF-USMF
pins: 1, 2

## R0402_200
designator R?
RES SMD 200 OHM 0.5% 1/16W 0402; Manufacturer: Yageo; Manufacturer Part Number: RT0402DRE07200RL; Resistance: 200R; Max Power Dissipation: 63mW; Temperature Coefficient: 50ppm/°C; Voltage Rating (DC): 50V; Supplier 1: Digi-Key; RoHS: Yes; Category: Chip SMD Resistors; Stock 1: 19777; Case/Package: 0402; Case Code (Metric): 1005; Case Code (Imperial): 0402; Min Operating Temperature: -55°C; Max Operating Temperature: 155°C; Package Quantity: 10000; Packaging: Tape and Reel; Tolerance: 0.5%; Resistor Type: Thin Film; Number of Terminations: 2; Features: Moisture Resistant; Series: RT; Length: 0.039inch; Width: 0.02inch; Height: 0.014inch; Lead Free: Lead Free; RoHS Compliant: Yes; ComponentLink1URL: https://datasheet.ciiva.com/2572/pyu-rt-1-to-0-05-rohs-l-5-2572248.pdf?src-supplier=Digi-Key; ComponentLink1Description: https://datasheet.ciiva.com/2572/pyu-rt-1-to-0-05-rohs-l-5-2572248.pdf?src-supplier=Digi-Key; Supplier Part Number 1: 311-2253-1-ND; Pricing 1: 1=0.17000, 10=0.14400, 100=0.05640, 1000=0.02360, 2500=0.02163, 5000=0.01966 (USD)
footprint RES0402
pins: 1, 2

## schottky
designator D?, comment B5817WS-TP
B5817WS Series 20 V 1 A Surface Mount Schottky Barrier Rectifier - SOD-323; Manufacturer: MCC; Forward Voltage: 450mV; Max Reverse Current: 1mA; Average Rectified Current: 1A; Max Repetitive Reverse Voltage (Vrrm): 20V; Max Forward Surge Current (Ifsm): 10A; Element Configuration: Single; Supplier 1: Digi-Key; Manufacturer Part Number: B5817WS-TP; RoHS: Yes; Category: Rectifier Diodes; Stock 1: 34040; Mount: Surface Mount; Number of Pins: 2; Max Operating Temperature: 125°C; Packaging: Tape and Reel; Package Quantity: 1; Forward Current: 1A; Max Reverse Voltage (DC): 20V; REACH SVHC: Unknown; Lead Free: Lead Free; RoHS Compliant: Yes; ComponentLink1URL: https://datasheet.ciiva.com/912/b5817ws-b5819wssod-323-912711.pdf?src-supplier=Digi-Key; ComponentLink1Description: https://datasheet.ciiva.com/912/b5817ws-b5819wssod-323-912711.pdf?src-supplier=Digi-Key; ComponentLink2URL: https://datasheet.ciiva.com/912/b5817ws-b5819wssod-323-912712.pdf?src-supplier=Digi-Key; ComponentLink2Description: https://datasheet.ciiva.com/912/b5817ws-b5819wssod-323-912712.pdf?src-supplier=Digi-Key; ComponentLink3URL: https://datasheet.ciiva.com/912/b5817ws-b5819wssod-323-912713.pdf?src-supplier=Digi-Key; ComponentLink3Description: https://datasheet.ciiva.com/912/b5817ws-b5819wssod-323-912713.pdf?src-supplier=Digi-Key; ComponentLink4URL: https://datasheet.ciiva.com/7624/b5817ws-b5819wssod-323-7624698.pdf?src-supplier=Element14; ComponentLink4Description: https://datasheet.ciiva.com/7624/b5817ws-b5819wssod-323-7624698.pdf?src-supplier=Element14; ComponentLink5URL: https://datasheet.ciiva.com/17182/b5817ws-b5819wssod-323-17182367.pdf?src-supplier=Future+Electronics; ComponentLink5Description: https://datasheet.ciiva.com/17182/b5817ws-b5819wssod-323-17182367.pdf?src-supplier=Future+Electronics; Supplier Part Number 1: B5817WS-TPMSCT-ND; Pricing 1: 1=0.45000, 10=0.33400, 100=0.18940, 500=0.12540, 1000=0.09614 (USD)
pins: 1 C, 2 A

## SCHOTTKY_0.2A
designator D?, comment CUS520,H3F
Diode Small Signal Schottky Si 0.2A 2-Pin USC T/R; Manufacturer: Toshiba; Average Rectified Current: 200mA; Max Repetitive Reverse Voltage (Vrrm): 30V; Element Configuration: Single; Max Reverse Current: 5uA; Peak Non-Repetitive Surge Current: 1A; Supplier 1: Digi-Key; Manufacturer Part Number: CUS520,H3F; RoHS: No; Category: Rectifier Diodes; Stock 1: 16652; Mount: Surface Mount; Number of Pins: 2; Contact Plating: Tin,Silver; Min Operating Temperature: -40°C; Max Operating Temperature: 100°C; Packaging: Tape and Reel; Max Reverse Voltage (DC): 30V; RoHS Compliant: No; ComponentLink1URL: https://toshiba.semicon-storage.com/info/docget.jsp?did=7041&prodName=CUS520&src-supplier=Digi-Key; ComponentLink1Description: https://toshiba.semicon-storage.com/info/docget.jsp?did=7041&prodName=CUS520&src-supplier=Digi-Key; ComponentLink2URL: http://toshiba.semicon-storage.com/info/docget.jsp?did=7041&prodName=CUS520&src-supplier=Avnet; ComponentLink2Description: http://toshiba.semicon-storage.com/info/docget.jsp?did=7041&prodName=CUS520&src-supplier=Avnet; ComponentLink3URL: http://toshiba.semicon-storage.com/info/lookup.jsp?pid=CUS520&amp;lang=en&src-supplier=Mouser; ComponentLink3Description: http://toshiba.semicon-storage.com/info/lookup.jsp?pid=CUS520&amp;lang=en&src-supplier=Mouser; Supplier Part Number 1: CUS520H3FCT-ND; Pricing 1: 1=0.22000, 10=0.17700, 100=0.09400, 500=0.06188, 1000=0.04208 (USD)
pins: 1 C, 2 A

## SCHOTTKY_RECTIFIER
designator D?, comment BAT54SW,115
Rectifier Diode Schottky 0.2A 5ns Automotive 3-Pin SC-70 T/R; Manufacturer: Nexperia; Supplier 1: Digi-Key; Manufacturer Part Number: BAT54SW,115; RoHS: Yes; Category: Rectifier Diodes; Stock 1: 166801; ComponentLink1URL: http://www.farnell.com/datasheets/1679676.pdf?src-supplier=Farnell; ComponentLink1Description: http://www.farnell.com/datasheets/1679676.pdf?src-supplier=Farnell; ComponentLink2URL: https://assets.nexperia.com/documents/data-sheet/BAT54W_SER.pdf?src-supplier=Digi-Key; ComponentLink2Description: https://assets.nexperia.com/documents/data-sheet/BAT54W_SER.pdf?src-supplier=Digi-Key; Supplier Part Number 1: 1727-2905-1-ND; Pricing 1: 1=0.23000, 10=0.20900, 100=0.11400, 500=0.07018, 1000=0.04785 (USD)
pins: 1, 3

## USB_MICRO
designator J?, comment 0475901001
USB - micro AB  Receptacle Connector 5 Position Surface Mount, Right Angle, Horizontal; Manufacturer: Molex; Number of Terminals/Pins: 5; Number of Ports: 1; Max Voltage Rating (AC): 30V; Pitch: 0.65mm; Supplier 1: Digi-Key; Manufacturer Part Number: 0475901001; RoHS: Yes; Category: USB Connectors; Stock 1: 6607; Mount: Surface Mount,Horizontal; Contact Material: Copper Alloy; Housing Material: Thermoplastic; Min Operating Temperature: -30°C; Max Operating Temperature: 85°C; Packaging: Tape and Reel; Package Quantity: 1500; Connector Type: USB; Number of Contacts: 5; Gender: Receptacle; Termination: Solder; Orientation: Right Angle; Features: Shielded; Length: 8.65mm; Depth: 6.1mm; Radiation Hardening: No; RoHS Compliant: Yes; ComponentLink1URL: https://datasheet.ciiva.com/29660/475901001-sd-29660111.pdf?src-supplier=Digi-Key; ComponentLink1Description: https://datasheet.ciiva.com/29660/475901001-sd-29660111.pdf?src-supplier=Digi-Key; Supplier Part Number 1: WM14336CT-ND; Pricing 1: 1=0.97000, 10=0.79900, 100=0.66600 (USD)
footprint USB_MICRO
pins: 1 VBUS, 2 D-, 3 D+, 4 ID, 5 GND, 6 SHLD1, 7 SHLD2

## ZENER
designator D?, comment D5V0P1B2LP-7B
TVS DIODE 5.5V 13V DFN1006-2; Manufacturer: Diodes; Number of Bidirectional Channels: 1; Min Breakdown Voltage: 6V; Power Line Protection: No; Polarity: Bidirectional; Breakdown Voltage: 7V; Max Surge Current: 4A; Max Power Dissipation: 250mW; Element Configuration: Single; ESD Protection: Yes; Max Reverse Leakage Current: 100nA; Supplier 1: Digi-Key; Manufacturer Part Number: D5V0P1B2LP-7B; RoHS: Yes; Category: TVS Diodes; Stock 1: 24260; Mount: Surface Mount; Case/Package: DFN; Number of Pins: 2; Contact Plating: Gold; Min Operating Temperature: -65°C; Max Operating Temperature: 150°C; Packaging: Tape and Reel; Reverse Standoff Voltage: 5.5V; Clamping Voltage: 13V; Termination: SMD/SMT; Working Voltage: 5.5V; Package Quantity: 10000; Direction: Bidirectional; Peak Pulse Current: 4A; Peak Pulse Power: 250mW; Resistor Type: Zener; RoHS Compliant: Yes; ComponentLink1URL: http://www.mouser.com/ds/2/115/D5V0P1B2LP-368667.pdf?src-supplier=Mouser; ComponentLink1Description: http://www.mouser.com/ds/2/115/D5V0P1B2LP-368667.pdf?src-supplier=Mouser; ComponentLink2URL: http://www.diodes.com/_files/datasheets/D5V0P1B2LP.pdf?src-supplier=Avnet; ComponentLink2Description: http://www.diodes.com/_files/datasheets/D5V0P1B2LP.pdf?src-supplier=Avnet; ComponentLink3URL: https://www.diodes.com/assets/Datasheets/D5V0P1B2LP.pdf?src-supplier=Digi-Key; ComponentLink3Description: https://www.diodes.com/assets/Datasheets/D5V0P1B2LP.pdf?src-supplier=Digi-Key; Supplier Part Number 1: D5V0P1B2LP-7BDICT-ND; Pricing 1: 1=0.28000, 10=0.22700, 100=0.12040, 500=0.07920, 1000=0.05386, 2000=0.04858, 5000=0.04224 (USD)
pins: 1, 2